# EAGLE library part CH549G (library WCH)
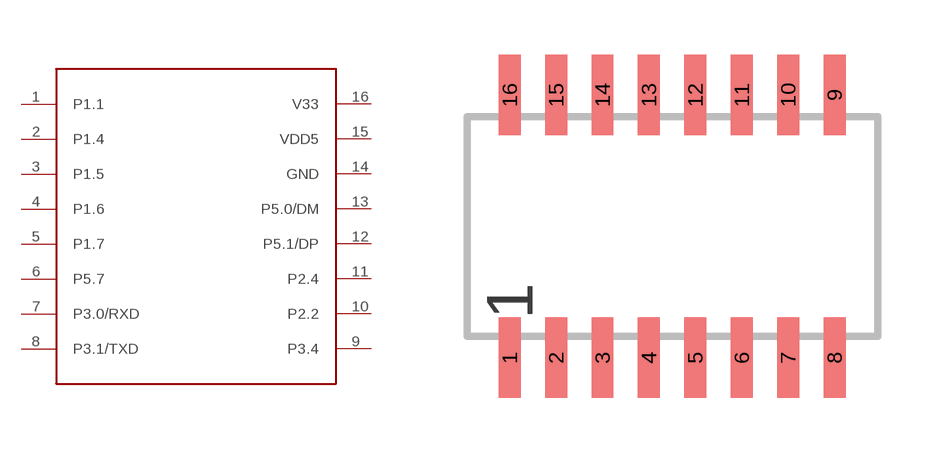
[diagram p1: symbol with the pads of SOP16; footprint SOP16]

Designator prefix -

## CH549G  [SOP16]
1  P1.1
2  P1.4
3  P1.5
4  P1.6
5  P1.7
6  P5.7
7  P3.0/RXD
8  P3.1/TXD
9  P3.4
10  P2.2
11  P2.4
12  P5.1/DP
13  P5.0/DM
14  GND
15  VDD5
16  V33

## Footprint SOP16 (pad centres in mm)
SMALL OUTLINE PACKAGE
smd 0.6 x 2.2: 1 -4.445,-3.6; 2 -3.175,-3.6; 3 -1.905,-3.6; 4 -0.635,-3.6; 5 0.635,-3.6; 6 1.905,-3.6; 7 3.175,-3.6; 8 4.445,-3.6; 9 4.445,3.6; 10 3.175,3.6; 11 1.905,3.6; 12 0.635,3.6; 13 -0.635,3.6; 14 -1.905,3.6; 15 -3.175,3.6; 16 -4.445,3.6